# Altium schematic symbol library Lib.SCHLIB: 44 symbols
Pins are listed as number, name and electrical type; pins without a type are passive.

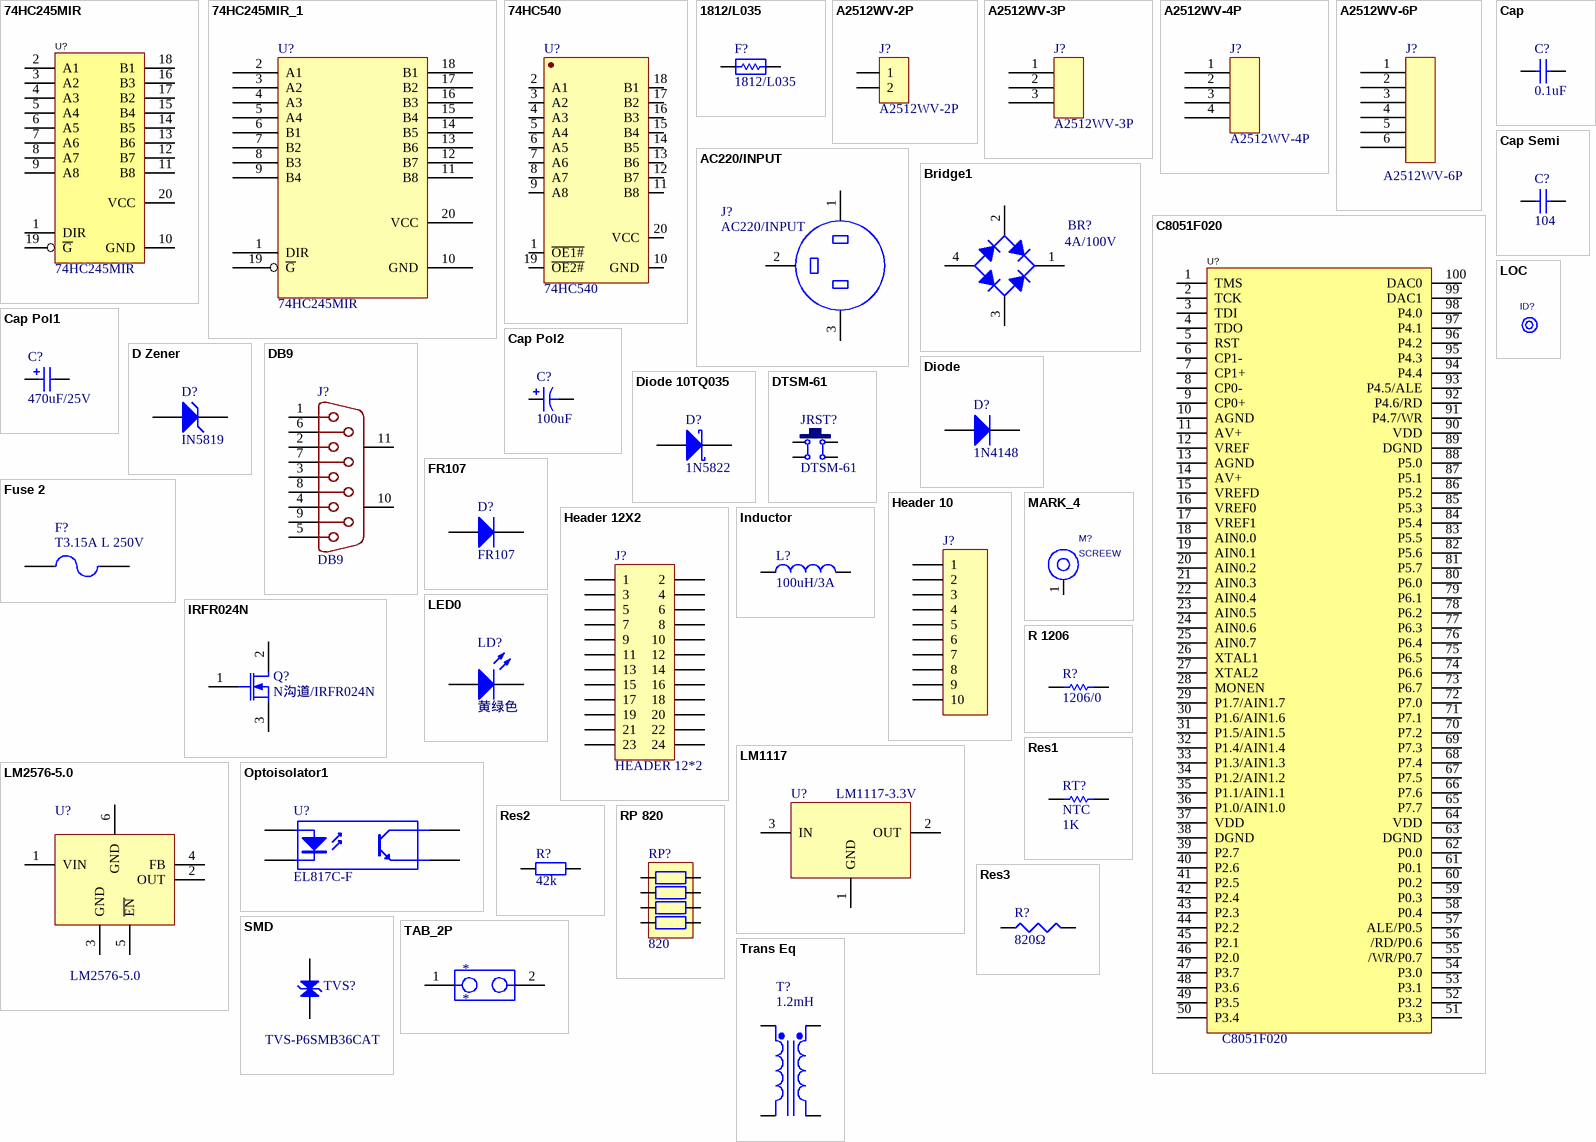
[diagram p0: symbols 74HC245MIR to Trans Eq]

## 74HC245MIR
designator U?
Manufacturer: Nexperia(安世); Symbol: 74HC245PW,118; Add into BOM: yes; output type: 三态; Supply Voltage: 2V~6V; Number of Elements: 1; Number of Bits per Element: 8; Sink Current: 7.8mA; Logic Family: 74HC; Device: 74HC245PW,118; LCSC Part Name: 74HC245PW,118; Supplier Part: C5626; Manufacturer Part: 74HC245PW,118; Supplier Footprint: TSSOP-20; JLCPCB Part Class: Extended Part; Datasheet: https://atta.szlcsc.com/upload/public/pdf/source/20180326/C70245_56281BCF84F9E7641D2BBB6A629E618A.pdf; Supplier: LCSC; Convert to PCB: yes; Input type: -; Channel Type: -; Source Current: 7.8mA; Operating Temperature: -40℃~+125℃
footprint TSSOP-20_L6.5-W4.4-P0.65-LS6.4-BL
footprint SSOP-20
pins: 1 DIR, 2 A1, 3 A2, 4 A3, 5 A4, 6 A5, 7 A6, 8 A7, 9 A8, 10 GND, 11 B8, 12 B7, 13 B6, 14 B5, 15 B4, 16 B3, 17 B2, 18 B1, 19 ~{G}, 20 VCC

## 74HC245MIR_1
designator U?, comment 74HC245MIR
footprint SSOP-20
pins: 1 DIR, 2 A1, 3 A2, 4 A3, 5 A4, 6 B1, 7 B2, 8 B3, 9 B4, 10 GND, 11 B8, 12 B7, 13 B6, 14 B5, 15 B4, 16 B3, 17 B2, 18 B1, 19 ~{G}, 20 VCC

## 74HC540
designator U?
footprint SOP-20
pins: 1 ~{OE1#}, 2 A1, 3 A2, 4 A3, 5 A4, 6 A5, 7 A6, 8 A7, 9 A8, 10 GND, 11 B8, 12 B7, 13 B6, 14 B5, 15 B4, 16 B3, 17 B2, 18 B1, 19 ~{OE2#}, 20 VCC

## 1812/L035
designator F?
footprint L1812 (Footprint not found)
pins: 1, 2

## A2512WV-2P
designator J?
footprint A2512WV-2P
pins: 1, 2

## A2512WV-3P
designator J?
footprint A2512WV-3P
pins: 1, 2, 3

## A2512WV-4P
designator J?
footprint A2512WV-4P
pins: 1, 2, 3, 4

## A2512WV-6P
designator J?
footprint A2512WV-6P
pins: 1, 2, 3, 4, 5, 6

## AC220/INPUT
designator J?
footprint VH-3A
pins: 1, 2 3, 3 2

## Bridge1
designator BR?  (value not drawn)
Full Wave Diode Bridge; Published: 8-Jun-2000; LatestRevisionDate: 17-Jul-2002; LatestRevisionNote: Re-released for DXP Platform.; Publisher: Altium Limited
footprint E-BIP-P4/D10 (Bridge Rectifier; 4 Terminals; Body 9.4 x 9.4 mm (typ); Pitch 5.08 mm)
simulation model BRIDGE (Spice Subcircuit)
footprint GBL407G
pins: 1 K, 2 C, 3 C, 4 A
text: 4A/100V

## C8051F020
designator U?
Manufacturer: SKYWORKS/SILICON LABS(芯科); Symbol: C8051F020-GQR; Add into BOM: yes; CPU Core: 51系列; Program Storage Size: 64KB; GPIO Ports Number: 64; Operating Voltage Range: 2.7V~3.6V; CPU Maximum Speed: 25MHz; ADC (Bit): 12bit；8bit; DAC (Bit): 12bit; Peripheral/Function: 温度传感器; Watchdog: 有; Device: C8051F020-GQR; LCSC Part Name: C8051F020-GQR; Supplier Part: C18087; Manufacturer Part: C8051F020-GQR; Supplier Footprint: TQFP-100(14x14); JLCPCB Part Class: Extended Part; Datasheet: https://atta.szlcsc.com/upload/public/pdf/source/20160318/1458266986324.pdf; Supplier: LCSC; Convert to PCB: yes; Operating Temperature Range: -40℃~+85℃; Universal Serial Bus: -; Low-Voltage Detect: 有; Secure Digital Input and Output: -; Internal Oscillator: 有
footprint TQFP-100_L14.0-W14.0-P0.50-LS16.0-BL
footprint TQFP-100
pins: 1 TMS, 2 TCK, 3 TDI, 4 TDO, 5 RST, 6 CP1-, 7 CP1+, 8 CP0-, 9 CP0+, 10 AGND, 11 AV+, 12 VREF, 13 AGND, 14 AV+, 15 VREFD, 16 VREF0, 17 VREF1, 18 AIN0.0, 19 AIN0.1, 20 AIN0.2, 21 AIN0.3, 22 AIN0.4, 23 AIN0.5, 24 AIN0.6, 25 AIN0.7, 26 XTAL1, 27 XTAL2, 28 MONEN, 29 P1.7/AIN1.7, 30 P1.6/AIN1.6, 31 P1.5/AIN1.5, 32 P1.4/AIN1.4, 33 P1.3/AIN1.3, 34 P1.2/AIN1.2, 35 P1.1/AIN1.1, 36 P1.0/AIN1.0, 37 VDD, 38 DGND, 39 P2.7, 40 P2.6, 41 P2.5, 42 P2.4, 43 P2.3, 44 P2.2, 45 P2.1, 46 P2.0, 47 P3.7, 48 P3.6, 49 P3.5, 50 P3.4, 51 P3.3, 52 P3.2, 53 P3.1, 54 P3.0, 55 /WR/P0.7, 56 /RD/P0.6, 57 ALE/P0.5, 58 P0.4, 59 P0.3, 60 P0.2, 61 P0.1, 62 P0.0, 63 DGND, 64 VDD, 65 P7.7, 66 P7.6, 67 P7.5, 68 P7.4, 69 P7.3, 70 P7.2, 71 P7.1, 72 P7.0, 73 P6.7, 74 P6.6, 75 P6.5, 76 P6.4, 77 P6.3, 78 P6.2, 79 P6.1, 80 P6.0, 81 P5.7, 82 P5.6, 83 P5.5, 84 P5.4, 85 P5.3, 86 P5.2, 87 P5.1, 88 P5.0, 89 DGND, 90 VDD, 91 P4.7/WR, 92 P4.6/RD, 93 P4.5/ALE, 94 P4.4, 95 P4.3, 96 P4.2, 97 P4.1, 98 P4.0, 99 DAC1, 100 DAC0

## Cap
designator C?  value 0.1uF  (hidden comment: Cap)
Capacitor; Published: 8-Jun-2000; LatestRevisionDate: 17-Jul-2002; LatestRevisionNote: Re-released for DXP Platform.; Publisher: Altium Limited
footprint RAD-0.3 (Capacitor; 2 Leads)
footprint CAPR2.54-5.1x3.2 (Capacitor, Ceramic, Thru-Hole, Dipped Radial; Body 5.1 x 3.2 mm (WxT) Pin Spacing 2.54 mm (typ))
footprint CAPR5.08-7.8x3.2 (Capacitor, Ceramic, Thru-Hole, Dipped Radial; Body 7.8 x 3.2 mm (WxT) Pin Spacing 5.08 mm (typ))
simulation model CAP (Capacitor)
signal-integrity model Cap
footprint C0805 (Footprint not found)
pins: 1, 2

## Cap Pol1
designator C?  value 470uF/25V  (hidden comment: Cap Pol1)
Polarized Capacitor (Radial); Published: 8-Jun-2000; LatestRevisionDate: 17-Jul-2002; LatestRevisionNote: Re-released for DXP Platform.; Publisher: Altium Limited
footprint RB7.6-15 (Polarized Capacitor (Radial); 2 Leads)
footprint CAPPR1.27-1.7x2.8 (Capacitor, Radial, Tantalum; Body 1.7 x 2.8 mm (Dia.xH max); Pin Spacing 1.27 mm (typ))
footprint CAPPR1.5-4x5 (Capacitor, Electrolytic, Radial; Body 4 x 5 mm (Dia.xH typ); Pin Spacing 1.5 mm (typ))
footprint CAPPR2-5x6.8 (Capacitor, Electrolytic, Radial; Body 5 x 6.8 mm (Dia.xH typ); Pin Spacing 2 mm (typ))
footprint CAPPR5-5x5 (Capacitor, Electrolytic, Radial; Body 5 x 5 mm (Dia.xH typ); Pin Spacing 5 mm (typ))
footprint CAPPR7.5-16x35 (Capacitor, Electrolytic, Radial; Body 16 x 35 mm (Dia.xH typ); Pin Spacing 7.5 mm (typ))
simulation model CAP (Capacitor)
signal-integrity model Cap Pol
footprint SMD 10-10.5
pins: 1, 2
1 alternate drawing of the same symbol

## Cap Pol2
designator C?  value 100uF  (hidden comment: Cap Pol2)
Polarized Capacitor (Axial); Published: 8-Jun-2000; LatestRevisionDate: 17-Jul-2002; LatestRevisionNote: Re-released for DXP Platform.; PackageReference: POLAR0.8; Publisher: Altium Limited; PackageDescription: Polarized Capacitor; 2 Leads
footprint POLAR0.8 (Polarized Capacitor; 2 Leads)
simulation model CAP (Capacitor)
signal-integrity model Cap Pol
footprint SMD-6.3*7.7
footprint SMD-6.3-7.7
pins: 1, 2
1 alternate drawing of the same symbol

## Cap Semi
designator C?  value 104  (hidden comment: Cap Semi)
Capacitor (Semiconductor SIM Model); Published: 8-Jun-2000; LatestRevisionDate: 29-May-2009; LatestRevisionNote: IPC-7351 Footprint Added.; PackageReference: C1206; Publisher: Altium Limited; PackageDescription: Chip Capacitor
footprint C1206 (Chip Capacitor, Body 3.2x1.6mm, IPC High Density)
footprint 0402 (Chip Capacitor, Body 1.0x0.5mm, IPC High Density)
footprint C2512 (Chip Capacitor, Body 2.54x1.27mm, IPC High Density)
footprint 1608[0603] (Chip Capacitor, Body 1.6x0.8mm, IPC High Density)
footprint C1210 (Chip Capacitor, Body 3.2x2.5mm, IPC High Density)
simulation model CAP (Semiconductor Capacitor)
signal-integrity model Cap Semi
footprint C 0805
footprint C0805
pins: 1, 2

## D Zener
designator D?, comment IN5819
Zener Diode; Published: 8-Jun-2000; LatestRevisionDate: 17-Jul-2002; LatestRevisionNote: Re-released for DXP Platform.; PackageReference: DIODE-0.7; Publisher: Altium Limited; PackageDescription: Diode, Thru-Hole; 2 Leads; 0.7 in Pin Spacing
footprint DIODE-0.7 (Diode, Thru-Hole; 2 Leads; 0.7 in Pin Spacing)
simulation model ZENER (Diode)
signal-integrity model D Zener
footprint SMA-L4
pins: 1 A, 2 K

## DB9
designator J?
footprint DB9
pins: 1, 2, 3, 4, 5, 6, 7, 8, 9, 10 MH1, 11 MH2

## Diode
designator D?, comment 1N4148
Default Diode; Published: 8-Jun-2000; LatestRevisionDate: 17-Jul-2002; LatestRevisionNote: Re-released for DXP Platform.; PackageVersion: Sep-1996; PackageReference: SMC; Publisher: Altium Limited; PackageDescription: DO-214-AB/SMC; 2 C-Bend Leads; Body 7.9 x 5.9 mm, inc. leads (LxW); Code_JEDEC: DO-214-AB
footprint SMC (DO-214-AB/SMC; 2 C-Bend Leads; Body 7.9 x 5.9 mm, inc. leads (LxW))
simulation model DIODE (Diode)
signal-integrity model Diode
footprint FR107W
pins: 1 A, 2 K

## Diode 10TQ035
designator D?, comment 1N5822
Schottky Rectifier; Note: Terminal 2 is the TAB and is electrically connected to the cathode; Published: 8-Jun-2000; LatestRevisionDate: 17-Jul-2002; LatestRevisionNote: Re-released for DXP Platform.; DatasheetDocument: PD-2.057B; PackageDocument: Feb-1998; PackageReference: TO-220AC; Publisher: Altium Limited
footprint SFM-T2(3)/X1.7V (TO, Thru-Hole, Vertical, Heatsink Mounted; 3 In-Line Leads (1 Absent); Pitch 2.54 mm)
simulation model 10TQ035 (DIODE)
footprint SMA-L4
pins: 1 K, 2 A

## DTSM-61
designator JRST?
footprint DISM-61
pins: 1, 2, 3, 4

## FR107
designator D?
footprint FR107W
pins: 1 A, 2 K

## Fuse 2
designator F?  (value not drawn)
Fuse; Published: 8-Jun-2000; LatestRevisionDate: 17-Jul-2002; LatestRevisionNote: Re-released for DXP Platform.; Publisher: Altium Limited
footprint PIN-W2/E2.8 (Fuse; 2 Leads)
simulation model FUSE (Spice Subcircuit)
footprint XF-001
pins: 1, 2
text: T3.15A L 250V

## Header 10
designator J?  (value not drawn)
Header, 10-Pin; LatestRevisionDate: 17-Jul-2002; LatestRevisionNote: Re-released for DXP Platform.; Publisher: Altium Limited
footprint XH-10P_2P54
pins: 1, 2, 3, 4, 5, 6, 7, 8, 9, 10

## Header 12X2
designator J?, comment HEADER 12*2
Header, 12-Pin, Dual row; LatestRevisionDate: 17-Jul-2002; LatestRevisionNote: Re-released for DXP Platform.; Publisher: Altium Limited
footprint HEADER_12x2
pins: 1, 2, 3, 4, 5, 6, 7, 8, 9, 10, 11, 12, 13, 14, 15, 16, 17, 18, 19, 20, 21, 22, 23, 24

## Inductor
designator L?  value 100uH/3A  (hidden comment: Inductor)
Code_IEC: 1005; Published: 8-Jun-2000; LatestRevisionDate: 17-Jul-2002; LatestRevisionNote: Re-released for DXP Platform.; PackageReference: 0402-A; Publisher: Altium Limited; Code_JEITA: 0402
simulation model INDUCTOR (Inductor)
signal-integrity model Inductor
footprint L100uH (Footprint not found)
pins: 1, 2

## IRFR024N
designator Q?, comment N沟道/IRFR024N
footprint TO-252AA
pins: 1, 2, 3

## LED0
designator LD?, comment 黄绿色
Typical INFRARED GaAs LED; Published: 8-Jun-2000; LatestRevisionDate: 17-Jul-2002; LatestRevisionNote: Re-released for DXP Platform.; Publisher: Altium Limited
simulation model LED0 (Diode)
footprint LED0805
pins: 1 A, 2 K

## LM1117
designator U?, comment LM1117-3.3V
footprint SOT-223
pins: 1 GND, 2 OUT, 3 IN

## LM2576-5.0
designator U?
footprint TO-263-5
pins: 1 VIN, 2 OUT, 3 GND, 4 FB, 5 ~{EN}, 6 GND

## LOC
designator ID?  (value not drawn)
SMT_Locotion; PCB DECAL: MARK
footprint MARK_1
pins: 1

## MARK_4
designator M?  value SCREEW  (hidden comment: MARK_4)
MARK Symble; RK_PN: MARK01; Priority: A; Created_by: CZD; Source_Path: C:\USERS\STQ\DESKTOP\RK3399_BOX\RK3399_BOX_SCH_V1.0_20180521.DSN; Part_Type: MARK; PCB DECAL: MARK
footprint SCREEW (Footprint not found)
pins: 1

## Optoisolator1
designator U?, comment EL817C-F
Optoisolator; Published: 24-Mar-1999; LatestRevisionDate: 17-Jul-2002; LatestRevisionNote: Re-released for DXP Platform.; Publisher: Altium Limited
footprint EL817S(C)
pins: 1 A, 2 K, 3 C, 4 E

## R 1206
designator R?, comment value 1206/0  (hidden comment: 1206)
ComponentLink1Description: New link; ComponentLink1URL: *
footprint R1206 (Footprint not found)
pins: 1, 2

## Res1
designator RT?, comment NTC  value 1K
Resistor; Published: 8-Jun-2000; LatestRevisionDate: 17-Jul-2002; LatestRevisionNote: Re-released for DXP Platform.; Publisher: Altium Limited
simulation model RESISTOR (Resistor)
signal-integrity model Res
footprint NTC-10D9
pins: 1, 2

## Res2
designator R?  value 42k  (hidden comment: Res2)
Resistor; Published: 8-Jun-2000; LatestRevisionDate: 17-Jul-2002; LatestRevisionNote: Re-released for DXP Platform.; PackageReference: AXIAL-0.4; Publisher: Altium Limited; PackageDescription: Axial Device, Thru-Hole; 2 Leads; 0.4 in Pin Spacing
footprint AXIAL-0.4 (Axial Device, Thru-Hole; 2 Leads; 0.4 in Pin Spacing)
simulation model RESISTOR (Resistor)
signal-integrity model Res
footprint R 0805
pins: 1, 2

## Res3
designator R?  value 820Ω  (hidden comment: Res3)
Resistor; Published: 8-Jun-2000; LatestRevisionDate: 17-Jul-2002; LatestRevisionNote: Re-released for DXP Platform.; Publisher: Altium Limited
simulation model RESISTOR (Resistor)
signal-integrity model Res
footprint R 0805
pins: 1, 2

## RP 820
designator RP?, comment 820
footprint RP
pins: 1, 2, 3, 4, 5, 6, 7, 8

## SMD
designator TVS?, comment TVS-P6SMB36CAT
footprint SMD
pins: 1 A, 2 K

## TAB_2P
designator *
footprint TAB_2P-200MIL_SPC (Footprint not found)
pins: 1, 2

## Trans Eq
designator T?, comment 1.2mH
Transformer (Equivalent Circuit Model); Published: 8-Jun-2000; LatestRevisionDate: 17-Jul-2002; LatestRevisionNote: Re-released for DXP Platform.; Publisher: Altium Limited
simulation model TRANS (Spice Subcircuit)
footprint UU1014
pins: 1 Pri+, 2 Pri-, 3 Sec+, 4 Sec-

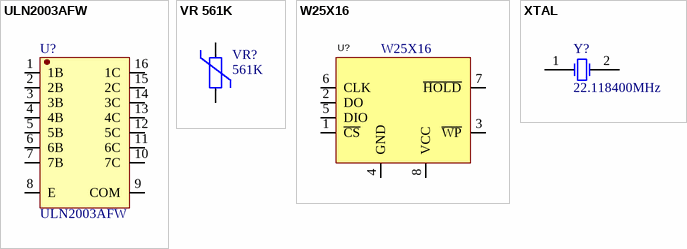
[diagram p1: symbols ULN2003AFW to XTAL]

## ULN2003AFW
designator U?
footprint SO-16P
pins: 1 1B, 2 2B, 3 3B, 4 4B, 5 5B, 6 6B, 7 7B, 8 E, 9 COM, 10 7C, 11 6C, 12 5C, 13 4C, 14 3C, 15 2C, 16 1C

## VR 561K
designator VR?, comment 561K
footprint RUEF400
pins: 1, 2

## W25X16
designator U?
Manufacturer: WINBOND(华邦); Symbol: W25X16VSSIG; Add into BOM: yes; Device: W25X16VSSIG; Supplier: LCSC; Supplier Part: C13586; Manufacturer Part: W25X16VSSIG; JLCPCB Part Class: Extended Part; LCSC Part Name: W25X16VSSIG 停产; Supplier Footprint: SOIC-8-208mil; Datasheet: https://atta.szlcsc.com/upload/public/pdf/source/20130607/1457706608717.pdf; Convert to PCB: yes
footprint SOIC-8_L5.3-W5.3-P1.27-LS8.0-BL
footprint SOIC-8
pins: 1 ~{CS}, 2 DO, 3 ~{WP}, 4 GND, 5 DIO, 6 CLK, 7 ~{HOLD}, 8 VCC

## XTAL
designator Y?, comment 22.118400MHz
Crystal Oscillator; Published: 8-Jun-2000; LatestRevisionDate: 17-Jul-2002; LatestRevisionNote: Re-released for DXP Platform.; PackageReference: R38; Publisher: Altium Limited; PackageDescription: Crystal, Thru-Hole; 2 Leads; Body 3.1 x 8.2 mm (Dia.xH)
simulation model XTAL (Spice Subcircuit)
footprint HC-49 (Footprint not found)
pins: 1 OSC1, 2 OSC2